# Altium footprint library Photocoupler.PcbLib: 2 footprints
Each footprint in its own frame and in the unit in brackets; x right, y up, seen from the top. Pads: shape width x height; smd on the part's side, far side on the other; paste and mask are expansions set on the pad; w line width, h text height; cw(c..) or ccw(c..) is an arc to the next point about the centre after c.
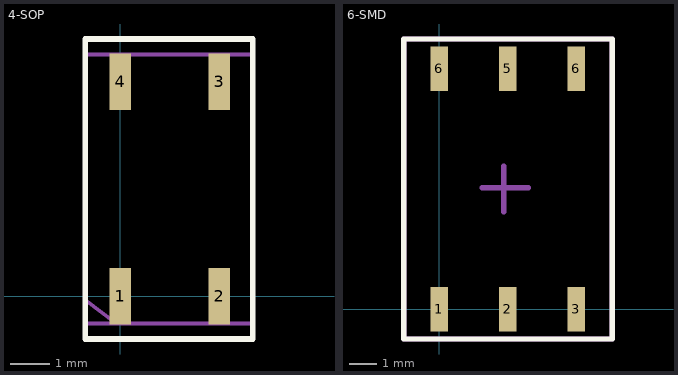
[diagram p0: the footprints below, top view; thin cyan lines are the x and y axes]

## 4-SOP [mm]
pads (4):
  rect 0.55x1.45 smd: 1(0,0) 2(2.54,0) 3(2.54,5.5) 4(0,5.5)
Top Overlay:
  lines w0.153: -0.9,-1.1 -0.9,6.6 3.4,6.6 3.4,-1.1 -0.9,-1.1
  text "." at -0.847,-1.647 h0.8
Top Assembly:
  lines w0.1: -0.9,-0.1 -0.1,-0.7 ; -0.9,-0.7 -0.9,6.2 3.4,6.2 3.4,-0.7 -0.9,-0.7
  text "'.Designator'" at -1.972,7.32 h0.8
Mechanical 15:
  lines w0.1: -0.9,-0.7 3.4,-0.7 3.4,6.2 -0.9,6.2 -0.9,-0.7
3D body "User Library-4-SOP.STEP": height 2.1, standoff 0, extent -0.9,-0.65 3.4,6.15

## 6-SMD [mm]
pads (6):
  rect 0.65x1.65 smd: 1(0,0) 2(2.54,0) 3(5.08,0) 5(2.54,8.9) 6(0,8.9) 6(5.08,8.9)
Top Overlay:
  lines w0.2: -1.3,-1.1 -1.3,10 6.4,10 6.4,-1.1 -1.3,-1.1
  text "." at -0.947,-1.847 h0.8
Top Assembly:
  lines w0.2: -1.3,-1.1 -1.3,10 6.4,10 6.4,-1.1 -1.3,-1.1
  text "'.Designator'" at -1.772,11.02 h0.8
Mechanical 15:
  lines w0.2: 1.6,4.5 3.3,4.5 ; 2.4,3.6 2.4,5.3 ; -1.3,-1.1 6.4,-1.1 6.4,10 -1.3,10 -1.3,-1.1
3D body "User Library-6-SMD.STEP": height 3.61, standoff 0, extent -1.067,-0.635 6.223,9.525